# Altium footprint library 2.Capasitors.PcbLib: 33 footprints (part 1 of 3)
Each footprint in its own frame and in the unit in brackets; x right, y up, seen from the top. Pads: shape width x height; smd on the part's side, far side on the other; paste and mask are expansions set on the pad; w line width, h text height; cw(c..) or ccw(c..) is an arc to the next point about the centre after c.
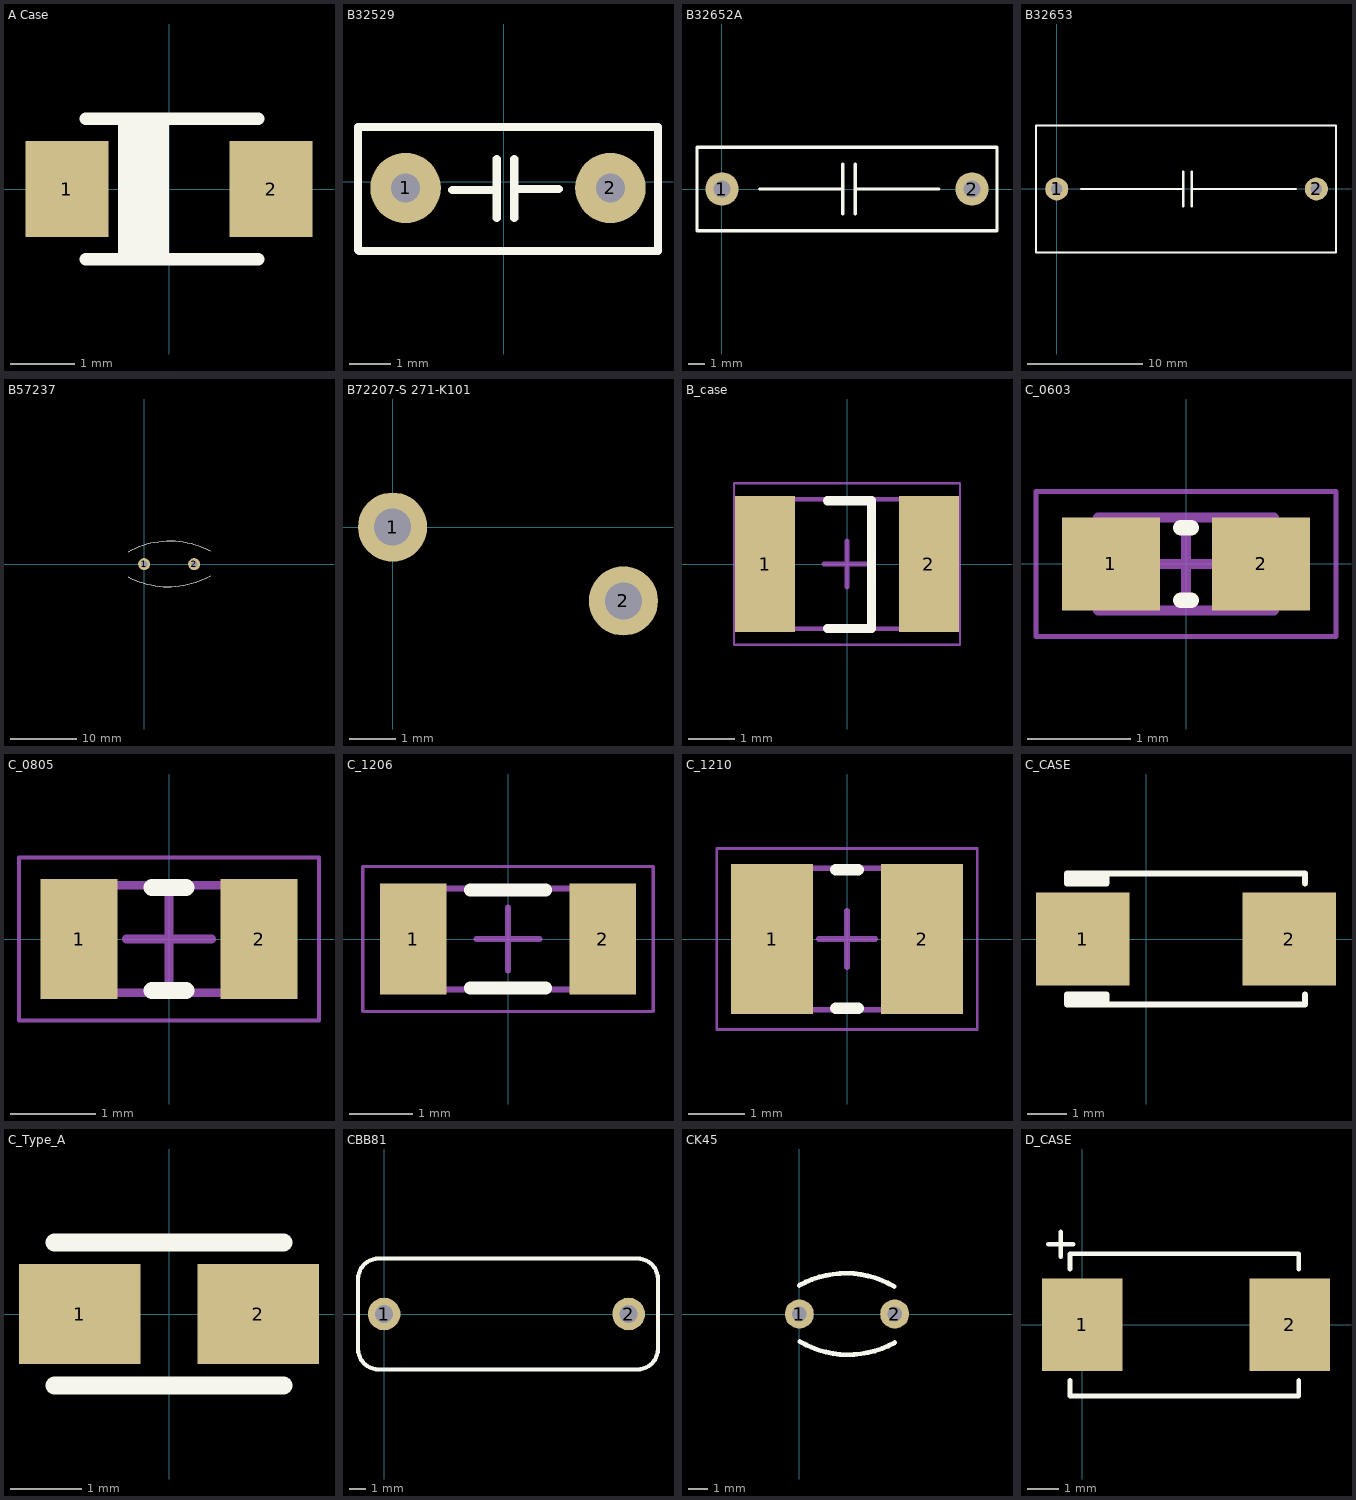
[diagram p0: the footprints below, top view; thin cyan lines are the x and y axes]

## A Case [mm]
pads (2):
  rect 1.3x1.5 smd: 1(-1.6,0) 2(1.6,0)
Top Overlay:
  lines w0.2: -1.3,-1.1 1.4,-1.1 ; -1.3,1.1 1.4,1.1 ; -0.7,1.1 -0.7,-1 -0.5,-1 -0.5,1.1 -0.2,1.1 ; -0.3,-1.1 -0.3,1.1 ; -0.1,-1.1 -0.1,1.1
3D body "User Library-CaseA.step": height 1.65, standoff -0.01, extent -1.732,-0.8 1.732,0.8

## B32529 [mm]
pads (2):
  round 1.7 hole 0.7: 1(-2.375,-0.15) 2(2.575,-0.15)
Top Overlay:
  lines w0.2: -1.25,-0.2 -0.175,-0.2 ; -0.175,-0.875 -0.175,0.55 ; 0.25,-0.875 0.25,0.55 ; 0.25,-0.175 1.325,-0.175 ; 3.725,-1.675 3.725,-1.675 ; 3.725,-1.675 3.725,1.325 -3.525,1.325 -3.525,-1.65 -3.5,-1.675 3.725,-1.675
3D body "User Library-MKT_B32529.step": height 8.5, standoff -4, extent -3.55,-1.675 3.75,1.325

## B32652A [mm]
pads (2):
  round 2 hole 1: 1(0,0) 2(15,0)
Top Overlay:
  lines w0.2: 2.25,0 7.25,0 ; 7.25,-1.5 7.25,0 ; 7.25,1.5 7.25,0 ; 8,-1.5 8,0 ; 8,1.5 8,0 ; 13,0 8,0 ; -1.5,-2.5 -1.5,2.5 16.5,2.5 16.5,-2.5 -1.5,-2.5
3D body "User Library-B32652A_5x10_5x18.step": height 10.5, standoff -3, extent -1.5,-2.5 16.5,2.5

## B32653 [mm]
pads (2):
  round 2 hole 1: 1(0,0) 2(22.5,0)
Top Overlay:
  lines w0.2: 2.1,0 10.95,0 ; 10.95,-1.5 10.95,0 ; 10.95,1.5 10.95,0 ; 11.7,-1.5 11.7,0 ; 11.7,1.5 11.7,0 ; 20.7,0 11.7,0 ; -1.8,-5.5 24.2,-5.5 24.2,5.5 -1.8,5.5 -1.8,-5.5
3D body: height 20.5, standoff 0, extent -1.8,-5.5 24.2,5.5

## B57237 [mm]
pads (2):
  round 1.8 hole 1: 1(0,0) 2(7.5,0)
Top Overlay:
  lines w0.15: -2.4,-1.9 ccw(c3.601,9.565) 9.922,-1.727 ; -2.4,1.8 cw(c3.864,-9.523) 9.889,1.929
3D body "User Library-B57237.step": height 21.5, standoff -30.48, extent -3.6,-3.5 11.4,3.5

## B72207-S 271-K101 [mm]
pads (2):
  round 1.5 hole 0.8: 1(0,0) 2(5,-1.6)
3D body "User Library-Varistor 7mm.step": height 12.5, standoff -2.5, extent -1.991,-3.8 6.991,1.8

## B_case [mm] "Chip Capacitor, 2-Leads, Body 3,50x2,80mm, IPC Medium Density"
height 1.9
pads (2):
  rect 1.3x2.95 smd: 1(-1.778,0) 2(1.778,0)
Top Overlay:
  lines w0.2: -0.424,-1.397 0.533,-1.397 0.533,1.372 -0.424,1.372
Mechanical 13:
  lines w0.1: -1.75,-1.4 1.75,-1.4 1.75,1.4 -1.75,1.4 -1.75,-1.4
Mechanical 15:
  lines w0.05: -2.45,-1.75 2.45,-1.75 2.45,1.75 -2.45,1.75 -2.45,-1.75
  lines w0.1: -0.5,0 0.5,0 ; 0,-0.5 0,0.5
3D body "User Library-AVX_BCASE.step": height 2.03, standoff 0, extent -1.85,-1.465 1.85,1.465

## C_0603 [mm] "Chip Resistor, 2-Leads, Body 1.60x0.80mm, IPC Medium Density"
height 0.45
pads (2):
  rect 0.95x0.9 smd: 1(-0.725,0) 2(0.725,0)
Top Overlay:
  lines w0.15: -0.05,-0.35 0.05,-0.35 ; -0.05,0.35 0.05,0.35
Mechanical 13:
  lines w0.1: -0.85,-0.45 0.85,-0.45 0.85,0.45 -0.85,0.45 -0.85,-0.45
Mechanical 15:
  lines w0.05: -1.45,-0.7 1.45,-0.7 1.45,0.7 -1.45,0.7 -1.45,-0.7
  lines w0.1: -0.45,0 0.45,0 ; 0,-0.45 0,0.45
3D body "User Library-cap_0603-1.step": height 0.8, standoff 0, extent -0.8,-0.4 0.8,0.4

## C_0805 [mm] "Chip Capacitor, 2-Leads, Body 2,00x1,25mm, IPC Medium Density"
height 1.3
pads (2):
  rect 0.9x1.4 smd: 1(-1.05,0) 2(1.05,0)
Top Overlay:
  lines w0.2: -0.2,-0.6 0.2,-0.6 ; -0.2,0.6 0.2,0.6
Mechanical 13:
  lines w0.1: -1,-0.625 -1,0.625 1,0.625 1,-0.625 -1,-0.625
Mechanical 15:
  lines w0.05: -1.75,-0.95 -1.75,0.95 1.75,0.95 1.75,-0.95 -1.75,-0.95
  lines w0.1: -0.5,0 0.5,0 ; 0,-0.5 0,0.5
3D body "User Library-C0805-2.step": height 0.8, standoff 0, extent -1,-0.625 1,0.625

## C_1206 [mm] "Chip Capacitor, 2-Leads, Body 3,20x1,60mm, IPC Medium Density"
height 1
pads (2):
  rect 1.05x1.75 smd: 1(-1.5,0) 2(1.5,0)
Top Overlay:
  lines w0.2: -0.6,-0.775 0.6,-0.775 ; -0.6,0.775 0.6,0.775
Mechanical 13:
  lines w0.1: -1.6,-0.8 -1.6,0.8 1.6,0.8 1.6,-0.8 -1.6,-0.8
Mechanical 15:
  lines w0.05: -2.3,-1.15 -2.3,1.15 2.3,1.15 2.3,-1.15 -2.3,-1.15
  lines w0.1: -0.5,0 0.5,0 ; 0,-0.5 0,0.5
3D body "CircuitWorks-RC1206.step": height 0.6, standoff 0, extent -1.6,-0.8 1.6,0.8

## C_1210 [mm] "Chip Capacitor, 2-Leads, Body 3.20x2.50mm, IPC Medium Density"
height 2.5
pads (2):
  rect 1.45x2.65 smd: 1(-1.325,0) 2(1.325,0)
Top Overlay:
  lines w0.2: -0.2,-1.225 0.2,-1.225 ; -0.2,1.225 0.2,1.225
Mechanical 13:
  lines w0.1: -1.6,-1.25 1.6,-1.25 1.6,1.25 -1.6,1.25 -1.6,-1.25
Mechanical 15:
  lines w0.05: -2.3,-1.6 2.3,-1.6 2.3,1.6 -2.3,1.6 -2.3,-1.6
  lines w0.1: -0.5,0 0.5,0 ; 0,-0.5 0,0.5
3D body "CAPC3225X25N.step": height 2.5, standoff 0, extent -1.6,-1.25 1.6,1.25

## C_CASE [mm]
pads (2):
  rect 2.35x2.35 smd: 1(-1.6,0) 2(3.6,0)
Top Overlay:
  lines w0.15: -1.9,-1.5 -1.1,-1.5 ; -1.9,-1.4 -1.1,-1.4 ; -1.9,1.4 -1.1,1.4 ; -1.9,1.5 -1.1,1.5 ; -1.75,-1.65 -1,-1.65 -1,-1.4 -2,-1.4 ; -1.75,1.65 -1,1.65 -1,1.4 -2,1.4 ; -1.1,-1.6 -1.9,-1.6 -1.9,-1.65 -2,-1.65 ; -1.1,1.6 -1.9,1.6 -1.9,1.65 -2,1.65 ; 4,-1.4 4,-1.65 -2,-1.65 ; 4,1.4 4,1.65 -2,1.65 ; -2,-1.65 -2,-1.4 ; -2,-1.65 -2,-1.4 ; -2,-1.65 -2,-1.4 ; -2,1.4 -2,1.65 ; -2,1.4 -2,1.65
3D body "User Library-Tantalum Size C.step": height 2.6, standoff 0, extent -1.9,-1.6 3.9,1.6

## C_Type_A [mm] "Chip Capacitor, 2-Leads, Body 3,20x1,60mm, IPC Medium Density"
height 1.6
pads (2):
  rect 1.7x1.4 smd: 1(-1.25,0) 2(1.25,0)
Top Overlay:
  lines w0.254: -1.6,-1 1.6,-1 ; -1.6,1 1.6,1
3D body "User Library-Solid Tantalum Chip Capacitor.step": height 1.8, standoff -0.04, extent -2.373,-0.925 2.423,0.878

## CBB81 [mm]
pads (2):
  round 2 hole 1.1: 1(0,0) 2(15,0)
Top Overlay:
  lines w0.254: -1.6,-2.13 ccw(c-0.33,-2.13) -0.33,-3.4 15.53,-3.4 ccw(c15.53,-2.13) 16.8,-2.13 16.8,2.13 ccw(c15.53,2.13) 15.53,3.4 -0.33,3.4 ccw(c-0.33,2.13) -1.6,2.13 -1.6,0.1 -1.6,-2.1
3D body "User Library-CBB81_W18_5_H12_5_T7_0_P15_0.STEP": height 15.5, standoff -10, extent -1.648,-3.5 16.848,3.5

## CK45 [mil]
pads (2):
  round 60 hole 30: 1(0,0) 2(196.85,0)
Top Overlay:
  lines w10: 0,59.06 cw(c96,-112.8) 195.92,56.8 ; 0.93,-56.8 ccw(c100.85,112.8) 196.85,-59.06
3D body "User Library-TDK_CAP_CK45_.step": height 491.96, standoff -196.85, extent -117.94,-98.42 314.83,98.43

## D_CASE [mm]
pads (2):
  rect 2.6x3 smd: 1(0,0) 2(6.7,0)
Top Overlay:
  lines w0.15: -1.1,2.6 -0.3,2.6 ; -0.7,2.2 -0.7,3 ; -0.4,-1.8 -0.4,-2.3 7,-2.3 7,-1.8 ; -0.4,1.8 -0.4,2.3 7,2.3 7,1.8
3D body "User Library-AVX_D_CASE.step": height 3.01, standoff 0, extent -0.4,-2.225 7,2.225